# Altium schematic symbol library SH1.0-5P.SchLib: 1 symbol
Pins are listed as number, name and electrical type; pins without a type are passive.

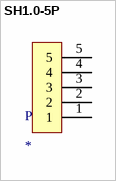
[diagram p0: symbol SH1.0-5P]

## SH1.0-5P
designator P
pins: 1, 2, 3, 4, 5